# EAGLE library part ESP32-C6-WROOM-1-N4 (library ESP32-C6-WROOM-1-N4)
802.15.4, Bluetooth, WiFi Bluetooth v5.0, Zigbee Transceiver Module 2.4GHz PCB Trace Surface Mount Source: Datasheet <https://www.espressif.com/sites/default/files/documentation/esp32-c6-wroom-1_wroom-1u_datasheet_en.pdf>
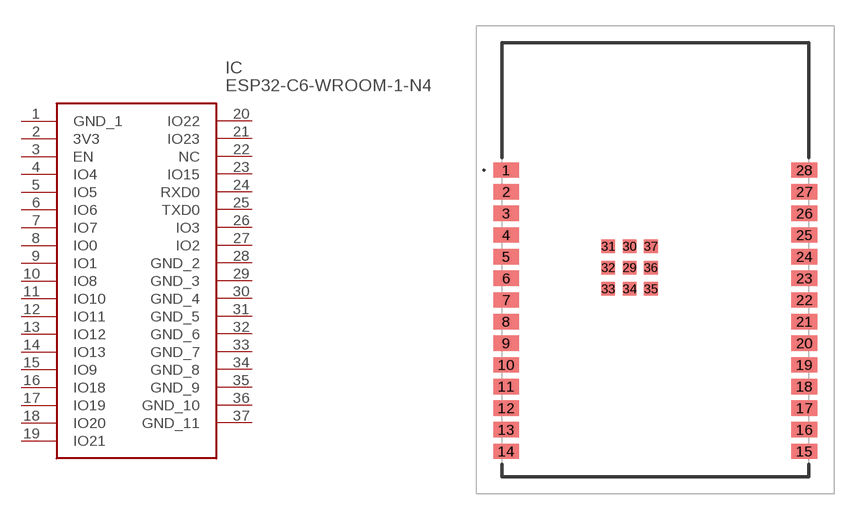
[diagram p0: symbol with the pads of ESP32C6WROOM1N4; footprint ESP32C6WROOM1N4]

Designator prefix IC

## ESP32-C6-WROOM-1-N4 (Description: 802.15.4, Bluetooth, WiFi Bluetooth v5.0, Zigbee Transceiver Module 2.4GHz PCB Trace Surface Mount; Height: 3.25mm; Manufacturer_Name: Espressif Systems; Manufacturer_Part_Number: ESP32-C6-WROOM-1-N4; Mouser_Part_Number: 356-ESP32C6WROOM1N4; Mouser_Price-Stock: https://www.mouser.co.uk/ProductDetail/Espressif-Systems/ESP32-C6-WROOM-1-N4?qs=8Wlm6%252BaMh8R1JRAtXlt87w%3D%3D)  [ESP32C6WROOM1N4]
1  GND_1
2  3V3
3  EN
4  IO4
5  IO5
6  IO6
7  IO7
8  IO0
9  IO1
10  IO8
11  IO10
12  IO11
13  IO12
14  IO13
15  IO9
16  IO18
17  IO19
18  IO20
19  IO21
20  IO22
21  IO23
22  NC  nc
23  IO15
24  RXD0
25  TXD0
26  IO3
27  IO2
28  GND_2
29  GND_3
30  GND_4
31  GND_5
32  GND_6
33  GND_7
34  GND_8
35  GND_9
36  GND_10
37  GND_11

## Footprint ESP32C6WROOM1N4 (pad centres in mm)
ESP32-C6-WROOM-1-N4-1_2024
smd 1.5 x 0.9: 1 -8.75,5.26; 2 -8.75,3.99; 3 -8.75,2.72; 4 -8.75,1.45; 5 -8.75,0.18; 6 -8.75,-1.09; 7 -8.75,-2.36; 8 -8.75,-3.63; 9 -8.75,-4.9; 10 -8.75,-6.17; 11 -8.75,-7.44; 12 -8.75,-8.71; 13 -8.75,-9.98; 14 -8.75,-11.25; 15 8.75,-11.25; 16 8.75,-9.98; 17 8.75,-8.71; 18 8.75,-7.44; 19 8.75,-6.17; 20 8.75,-4.9; 21 8.75,-3.63; 22 8.75,-2.36; 23 8.75,-1.09; 24 8.75,0.18; 25 8.75,1.45; 26 8.75,2.72; 27 8.75,3.99; 28 8.75,5.26
smd 0.8 x 0.8: 29 -1.505,-0.46; 30 -1.505,0.79; 31 -2.755,0.79; 32 -2.755,-0.46; 33 -2.755,-1.71; 34 -1.505,-1.71; 35 -0.255,-1.71; 36 -0.255,-0.46; 37 -0.255,0.79